# Altium schematic symbol library 74HC590BQ,115.Schlib: 1 symbol
Pins are listed as number, name and electrical type; pins without a type are passive.

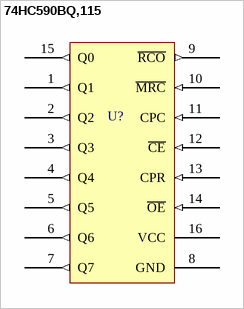
[diagram p0: symbol 74HC590BQ,115]

## 74HC590BQ,115
designator U?
8Bit Counter
pins: 1 Q1 (out), 2 Q2 (out), 3 Q3 (out), 4 Q4 (out), 5 Q5 (out), 6 Q6 (out), 7 Q7 (out), 8 GND (power), 9 ~{RCO} (out), 10 ~{MRC} (in), 11 CPC (in), 12 ~{CE} (in), 13 CPR (in), 14 ~{OE} (in), 15 Q0 (out), 16 VCC (power)